# EAGLE library part AUDIO-AMP-MONO-TPA2005 (library FlashPCB_ICs)
TPA2005 - IC AMP CLASS D MONO 1.45W 8SON Technical Specifications: Amplifier IC 1-Channel (Mono) Class D 8-SON (3x3) Output: 1-Channel (Mono) Max Power: 1.4W into 8 OHM from 5V Supply Supply Voltage: 2.5V~5.5V Efficiency: 79% @ 100mW, 84% @ 400mW Features: Differntial Inputs, Short-Circuit and Thermal Protection, Shutdown Component Search: TPA2005 <https://www.flashpcb.com/components> Datasheet: TPA2005D1-Q1 1.4-W Mono Filter-Free Class-D Audio Power Amplifier datasheet (Rev. E) <https://www.ti.com/lit/ds/symlink/tpa2005d1-q1.pdf?HQS=dis-dk-null-digikeymode-dsf-pf-null-wwe&ts=1685553061013&ref_url=https%253A%252F%252Fwww.ti.com%252Fgeneral%252Fdocs%252Fsuppproductinfo.tsp%253FdistId%253D10%2526gotoUrl%253Dhttps%253A%252F%252Fwww.ti.com%252Flit%252Fgpn%252Ftpa2005d1-q1>
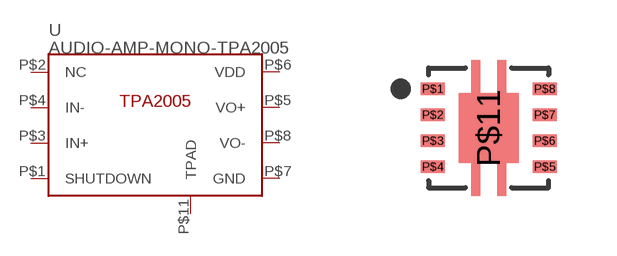
[diagram p18: symbol with the pads of 8-VSON(3X3); footprint 8-VSON(3X3)]

Designator prefix U

## AUDIO-AMP-MONO-TPA2005DRB  [8-VSON(3X3)]
P$1  SHUTDOWN
P$2  NC
P$3  IN+
P$4  IN-
P$5  VO+
P$6  VDD
P$7  GND
P$8  VO-
P$11  TPAD

## Footprint 8-VSON(3X3) (pad centres in mm)
smd 0.6 x 0.31: P$1 -1.4,0.975; P$2 -1.4,0.325; P$3 -1.4,-0.325; P$4 -1.4,-0.975; P$5 1.4,-0.975; P$6 1.4,-0.325; P$7 1.4,0.325; P$8 1.4,0.975
smd 1.5 x 1.75: P$11 0,0